# EAGLE library part JST-S06B-PASK-2 (library CC11x)
http://uk.farnell.com/jst-japan-solderless-terminals/s06b-pask-2/header-pa-6way-side-2mm/dp/1830751
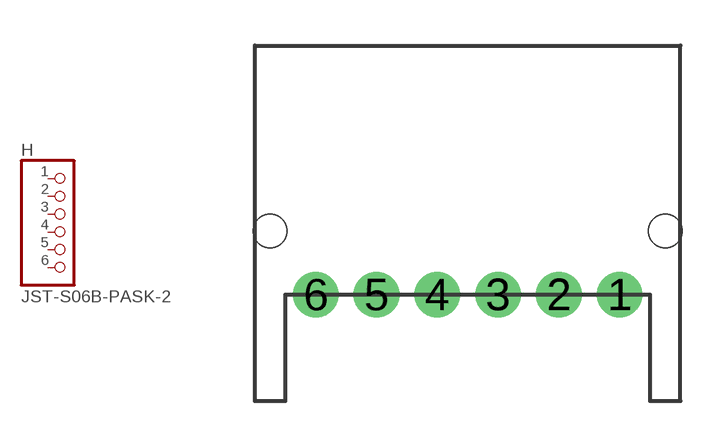
[diagram p13: symbol with the pads of JST-PA-6-SE; footprint JST-PA-6-SE]

Designator prefix H

## JST-S06B-PASK-2 (MPN_ONECALL: 1830751)  [JST-PA-6-SE]
1  1  pas
2  2  pas
3  3  pas
4  4  pas
5  5  pas
6  6  pas

## Footprint JST-PA-6-SE (pad centres in mm)
drill 0.8 pad 1.5: 1 5,0; 2 3,0; 3 1,0; 4 -1,0; 5 -3,0; 6 -5,0
hole 1.1 at 6.5,2.1
hole 1.1 at -6.5,2.1